# Altium schematic symbol library B5819W-TP.SchLib: 1 symbol
Pins are listed as number, name and electrical type; pins without a type are passive.

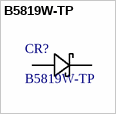
[diagram p0: symbol B5819W-TP]

## B5819W-TP
designator CR?
Description; Manufacturer_Name: MCC; Copyright: Copyright (C) 2025 Ultra Librarian. All rights reserved.; Manufacturer_Part_Number: B5819W-TP
footprint SDO_SOD-123_MCC
pins: 1, 2